# Altium footprint library UBD.PcbLib: 1 footprints
Each footprint in its own frame and in the unit in brackets; x right, y up, seen from the top. Pads: shape width x height; smd on the part's side, far side on the other; paste and mask are expansions set on the pad; w line width, h text height; cw(c..) or ccw(c..) is an arc to the next point about the centre after c.
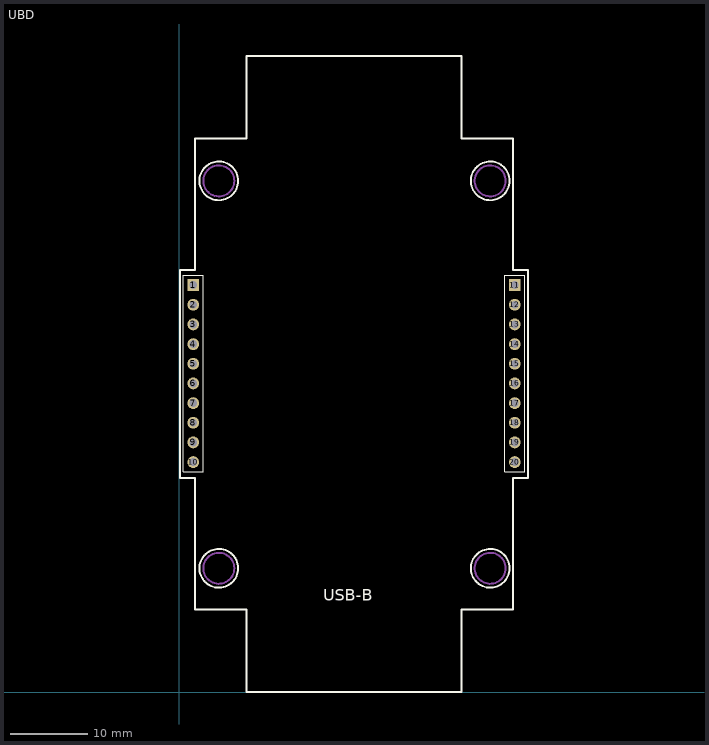
[diagram p0: the footprint, top view; thin cyan lines are the x and y axes]

## UBD [mil]
pads (20):
  rect 60x60 hole 40: 1(70,2070) 11(1705,2070)
  round 60 hole 40: 2(70,1970) 3(70,1870) 4(70,1770) 5(70,1670) 6(70,1570) 7(70,1470) 8(70,1370) 9(70,1270) 10(70,1170) 12(1705,1970) 13(1705,1870) 14(1705,1770) 15(1705,1670) 16(1705,1570) 17(1705,1470) 18(1705,1370) 19(1705,1270) 20(1705,1170)
Top Overlay:
  circle w10: c1580,2600 r98.43
  circle w10: c1580,630 r98.43
  circle w10: c200,630 r98.43
  circle w10: c200,2600 r98.43
  lines w6: 20,1120 20,2120 120,2120 120,1120 20,1120 ; 1655,1120 1655,2120 1755,2120 1755,1120 1655,1120
  lines w10: 2,1090 2,2146 80,2146 80,2816 340,2816 340,3236 1435,3236 1435,2816 1695,2816 1695,2146 1773,2146 1773,1090 1695,1090 1695,420 1435,420 1435,0 340,0 340,420 80,420 80,1090 2,1090
  text "USB-B" at 730,465 h60
Mechanical 1:
  circle w10: c1580,2600 r78.74
  circle w10: c1580,630 r78.74
  circle w10: c200,630 r78.74
  circle w10: c200,2600 r78.74
3D body: height 275.59, standoff 196.85, extent 0,0 1780,3240